# Altium footprint library Con High-Speed PCB.PcbLib: 35 footprints (part 3 of 3)
Each footprint in its own frame and in the unit in brackets; x right, y up, seen from the top. Pads: shape width x height; smd on the part's side, far side on the other; paste and mask are expansions set on the pad; w line width, h text height; cw(c..) or ccw(c..) is an arc to the next point about the centre after c.
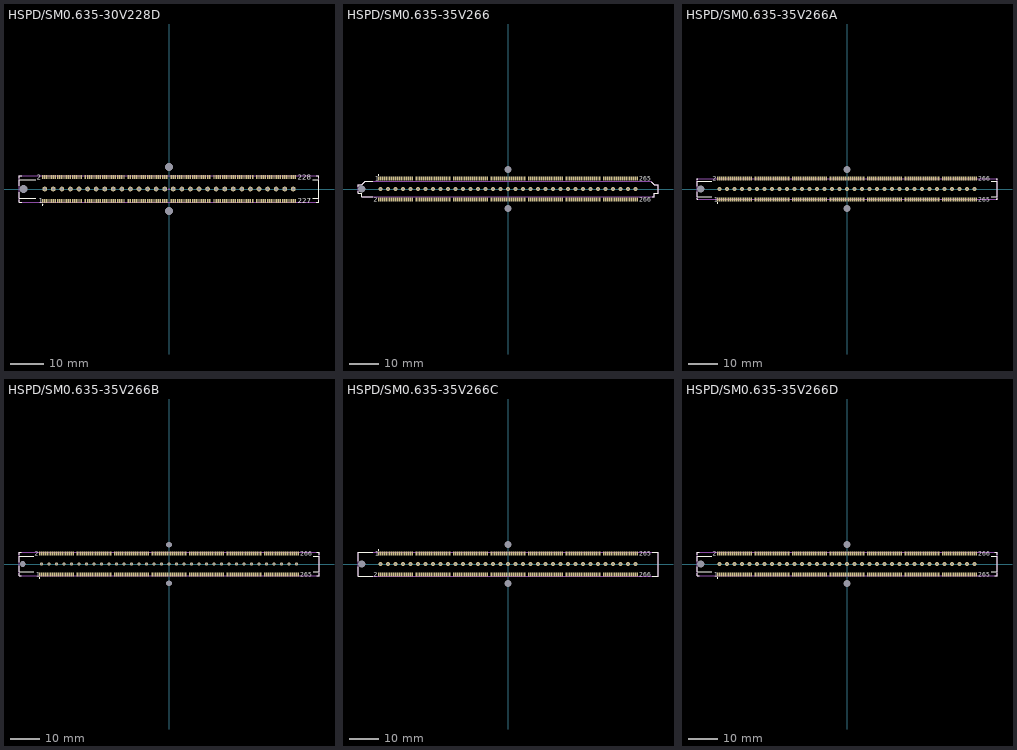
[diagram p2: the footprints below, top view; thin cyan lines are the x and y axes]

## HSPD/SM0.635-30V228D [mil] "Connector; High-Speed, Receptacle; 228 Position; Vertical"
height 600.79
pads (261):
  rect 17x50 smd: 1(-1475,-139) 2(-1475,139) 3(-1450,-139) 4(-1450,139) 5(-1425,-139) 6(-1425,139) 7(-1400,-139) 8(-1400,139) 9(-1375,-139) 10(-1375,139) 11(-1350,-139) 12(-1350,139) 13(-1325,-139) 14(-1325,139) 15(-1300,-139) 16(-1300,139) 17(-1275,-139) 18(-1275,139) 19(-1250,-139) 20(-1250,139) 21(-1225,-139) 22(-1225,139) 23(-1200,-139) 24(-1200,139) 25(-1175,-139) 26(-1175,139) 27(-1150,-139) 28(-1150,139) 29(-1125,-139) 30(-1125,139) 31(-1100,-139) 32(-1100,139) 33(-1075,-139) 34(-1075,139) 35(-1050,-139) 36(-1050,139) 37(-1025,-139) 38(-1025,139) 39(-975,-139) 40(-975,139) 41(-950,-139) 42(-950,139) 43(-925,-139) 44(-925,139) 45(-900,-139) 46(-900,139) 47(-875,-139) 48(-875,139) 49(-850,-139) 50(-850,139) 51(-825,-139) 52(-825,139) 53(-800,-139) 54(-800,139) 55(-775,-139) 56(-775,139) 57(-750,-139) 58(-750,139) 59(-725,-139) 60(-725,139) 61(-700,-139) 62(-700,139) 63(-675,-139) 64(-675,139) 65(-650,-139) 66(-650,139) 67(-625,-139) 68(-625,139) 69(-600,-139) 70(-600,139) 71(-575,-139) 72(-575,139) 73(-550,-139) 74(-550,139) 75(-525,-139) 76(-525,139) 77(-475,-139) 78(-475,139) 79(-450,-139) 80(-450,139) 81(-425,-139) 82(-425,139) 83(-400,-139) 84(-400,139) 85(-375,-139) 86(-375,139) 87(-350,-139) 88(-350,139) 89(-325,-139) 90(-325,139) 91(-300,-139) 92(-300,139) 93(-275,-139) 94(-275,139) 95(-250,-139) 96(-250,139) 97(-225,-139) 98(-225,139) 99(-200,-139) 100(-200,139) 101(-175,-139) 102(-175,139) 103(-150,-139) 104(-150,139) 105(-125,-139) 106(-125,139) 107(-100,-139) 108(-100,139) 109(-75,-139) 110(-75,139) 111(-50,-139) 112(-50,139) 113(-25,-139) 114(-25,139) 115(25,-139) 116(25,139) 117(50,-139) 118(50,139) 119(75,-139) 120(75,139) 121(100,-139) 122(100,139) 123(125,-139) 124(125,139) 125(150,-139) 126(150,139) 127(175,-139) 128(175,139) 129(200,-139) 130(200,139) 131(225,-139) 132(225,139) 133(250,-139) 134(250,139) 135(275,-139) 136(275,139) 137(300,-139) 138(300,139) 139(325,-139) 140(325,139) 141(350,-139) 142(350,139) 143(375,-139) 144(375,139) 145(400,-139) 146(400,139) 147(425,-139) 148(425,139) 149(450,-139) 150(450,139) 151(475,-139) 152(475,139) 153(525,-139) 154(525,139) 155(550,-139) 156(550,139) 157(575,-139) 158(575,139) 159(600,-139) 160(600,139) 161(625,-139) 162(625,139) 163(650,-139) 164(650,139) 165(675,-139) 166(675,139) 167(700,-139) 168(700,139) 169(725,-139) 170(725,139) 171(750,-139) 172(750,139) 173(775,-139) 174(775,139) 175(800,-139) 176(800,139) 177(825,-139) 178(825,139) 179(850,-139) 180(850,139) 181(875,-139) 182(875,139) 183(900,-139) 184(900,139) 185(925,-139) 186(925,139) 187(950,-139) 188(950,139) 189(975,-139) 190(975,139) 191(1025,-139) 192(1025,139) 193(1050,-139) 194(1050,139) 195(1075,-139) 196(1075,139) 197(1100,-139) 198(1100,139) 199(1125,-139) 200(1125,139) 201(1150,-139) 202(1150,139) 203(1175,-139) 204(1175,139) 205(1200,-139) 206(1200,139) 207(1225,-139) 208(1225,139) 209(1250,-139) 210(1250,139) 211(1275,-139) 212(1275,139) 213(1300,-139) 214(1300,139) 215(1325,-139) 216(1325,139) 217(1350,-139) 218(1350,139) 219(1375,-139) 220(1375,139) 221(1400,-139) 222(1400,139) 223(1425,-139) 224(1425,139) 225(1450,-139) 226(1450,139) 227(1475,-139) 228(1475,139)
  round 55.12 hole 32: 229(1450,0) 230(1350,0) 231(1250,0) 232(1150,0) 233(1050,0) 234(950,0) 235(850,0) 236(750,0) 237(650,0) 238(550,0) 239(450,0) 240(350,0) 241(250,0) 242(150,0) 243(50,0) 244(-50,0) 245(-150,0) 246(-250,0) 247(-350,0) 248(-450,0) 249(-550,0) 250(-650,0) 251(-750,0) 252(-850,0) 253(-950,0) 254(-1050,0) 255(-1150,0) 256(-1250,0) 257(-1350,0) 258(-1450,0)
  round 82.19 hole 94 unplated: 259(-1700,0) 260(0,-257.11) 261(0,257.11)
Top Overlay:
  circle w9.84: c-1475,-185.65 r4.92
  lines w7.87: -1750,-125.69 -1750,-157.5 -1718.18,-157.5 ; -1750,-37.91 -1750,-106 -1556.32,-106 ; -1750,37.91 -1750,106 -1556.32,106 ; -1750,125.69 -1750,157.5 -1718.18,157.5 ; 1674.39,-106 1750,-106 1750,106 1674.39,106 ; 1718.18,-157.5 1750,-157.5 1750,-125.69 ; 1718.18,157.5 1750,157.5 1750,125.69
  text "2" at -1541.93,109.47 h59.06
  text "1" at -1522.24,-168.53 h59.06
  text "228" at 1502.56,109.47 h59.06
  text "227" at 1502.56,-168.53 h59.06
Mechanical 1:
  lines w3.94: -10,0 10,0 ; 0,-10 0,10
Mechanical 13:
  lines w3.94: -1750,-157.5 -1750,157.5 1750,157.5 1750,-157.5 -1750,-157.5
3D body: height 600.79, standoff 0, extent -1750,-157.5 1750,157.5

## HSPD/SM0.635-35V266 [mil] "Connector; High-Speed, Plug; 266 Position; Vertical"
height 435.83
pads (304):
  rect 17x50 smd: 1(-1725,139) 2(-1725,-139) 3(-1700,139) 4(-1700,-139) 5(-1675,139) 6(-1675,-139) 7(-1650,139) 8(-1650,-139) 9(-1625,139) 10(-1625,-139) 11(-1600,139) 12(-1600,-139) 13(-1575,139) 14(-1575,-139) 15(-1550,139) 16(-1550,-139) 17(-1525,139) 18(-1525,-139) 19(-1500,139) 20(-1500,-139) 21(-1475,139) 22(-1475,-139) 23(-1450,139) 24(-1450,-139) 25(-1425,139) 26(-1425,-139) 27(-1400,139) 28(-1400,-139) 29(-1375,139) 30(-1375,-139) 31(-1350,139) 32(-1350,-139) 33(-1325,139) 34(-1325,-139) 35(-1300,139) 36(-1300,-139) 37(-1275,139) 38(-1275,-139) 39(-1225,139) 40(-1225,-139) 41(-1200,139) 42(-1200,-139) 43(-1175,139) 44(-1175,-139) 45(-1150,139) 46(-1150,-139) 47(-1125,139) 48(-1125,-139) 49(-1100,139) 50(-1100,-139) 51(-1075,139) 52(-1075,-139) 53(-1050,139) 54(-1050,-139) 55(-1025,139) 56(-1025,-139) 57(-1000,139) 58(-1000,-139) 59(-975,139) 60(-975,-139) 61(-950,139) 62(-950,-139) 63(-925,139) 64(-925,-139) 65(-900,139) 66(-900,-139) 67(-875,139) 68(-875,-139) 69(-850,139) 70(-850,-139) 71(-825,139) 72(-825,-139) 73(-800,139) 74(-800,-139) 75(-775,139) 76(-775,-139) 77(-725,139) 78(-725,-139) 79(-700,139) 80(-700,-139) 81(-675,139) 82(-675,-139) 83(-650,139) 84(-650,-139) 85(-625,139) 86(-625,-139) 87(-600,139) 88(-600,-139) 89(-575,139) 90(-575,-139) 91(-550,139) 92(-550,-139) 93(-525,139) 94(-525,-139) 95(-500,139) 96(-500,-139) 97(-475,139) 98(-475,-139) 99(-450,139) 100(-450,-139) 101(-425,139) 102(-425,-139) 103(-400,139) 104(-400,-139) 105(-375,139) 106(-375,-139) 107(-350,139) 108(-350,-139) 109(-325,139) 110(-325,-139) 111(-300,139) 112(-300,-139) 113(-275,139) 114(-275,-139) 115(-225,139) 116(-225,-139) 117(-200,139) 118(-200,-139) 119(-175,139) 120(-175,-139) 121(-150,139) 122(-150,-139) 123(-125,139) 124(-125,-139) 125(-100,139) 126(-100,-139) 127(-75,139) 128(-75,-139) 129(-50,139) 130(-50,-139) 131(-25,139) 132(-25,-139) 133(0,139) 134(0,-139) 135(25,139) 136(25,-139) 137(50,139) 138(50,-139) 139(75,139) 140(75,-139) 141(100,139) 142(100,-139) 143(125,139) 144(125,-139) 145(150,139) 146(150,-139) 147(175,139) 148(175,-139) 149(200,139) 150(200,-139) 151(225,139) 152(225,-139) 153(275,139) 154(275,-139) 155(300,139) 156(300,-139) 157(325,139) 158(325,-139) 159(350,139) 160(350,-139) 161(375,139) 162(375,-139) 163(400,139) 164(400,-139) 165(425,139) 166(425,-139) 167(450,139) 168(450,-139) 169(475,139) 170(475,-139) 171(500,139) 172(500,-139) 173(525,139) 174(525,-139) 175(550,139) 176(550,-139) 177(575,139) 178(575,-139) 179(600,139) 180(600,-139) 181(625,139) 182(625,-139) 183(650,139) 184(650,-139) 185(675,139) 186(675,-139) 187(700,139) 188(700,-139) 189(725,139) 190(725,-139) 191(775,139) 192(775,-139) 193(800,139) 194(800,-139) 195(825,139) 196(825,-139) 197(850,139) 198(850,-139) 199(875,139) 200(875,-139) 201(900,139) 202(900,-139) 203(925,139) 204(925,-139) 205(950,139) 206(950,-139) 207(975,139) 208(975,-139) 209(1000,139) 210(1000,-139) 211(1025,139) 212(1025,-139) 213(1050,139) 214(1050,-139) 215(1075,139) 216(1075,-139) 217(1100,139) 218(1100,-139) 219(1125,139) 220(1125,-139) 221(1150,139) 222(1150,-139) 223(1175,139) 224(1175,-139) 225(1200,139) 226(1200,-139) 227(1225,139) 228(1225,-139) 229(1275,139) 230(1275,-139) 231(1300,139) 232(1300,-139) 233(1325,139) 234(1325,-139) 235(1350,139) 236(1350,-139) 237(1375,139) 238(1375,-139) 239(1400,139) 240(1400,-139) 241(1425,139) 242(1425,-139) 243(1450,139) 244(1450,-139) 245(1475,139) 246(1475,-139) 247(1500,139) 248(1500,-139) 249(1525,139) 250(1525,-139) 251(1550,139) 252(1550,-139) 253(1575,139) 254(1575,-139) 255(1600,139) 256(1600,-139) 257(1625,139) 258(1625,-139) 259(1650,139) 260(1650,-139) 261(1675,139) 262(1675,-139) 263(1700,139) 264(1700,-139) 265(1725,139) 266(1725,-139)
  round 55.12 hole 32: 267(1700,0) 268(1600,0) 269(1500,0) 270(1400,0) 271(1300,0) 272(1200,0) 273(1100,0) 274(1000,0) 275(900,0) 276(800,0) 277(700,0) 278(600,0) 279(500,0) 280(400,0) 281(300,0) 282(200,0) 283(100,0) 284(0,0) 285(-100,0) 286(-200,0) 287(-300,0) 288(-400,0) 289(-500,0) 290(-600,0) 291(-700,0) 292(-800,0) 293(-900,0) 294(-1000,0) 295(-1100,0) 296(-1200,0) 297(-1300,0) 298(-1400,0) 299(-1500,0) 300(-1600,0) 301(-1700,0)
  round 82.19 hole 94 unplated: 302(-1950,0) 303(0,-257.11) 304(0,257.11)
Top Overlay:
  circle w9.84: c-1725,185.65 r4.92
  lines w7.87: -2000,-31.32 -2000,-59 -1949,-59 -1949,-104 -1806.32,-104 ; -2000,31.32 -2000,59 -1949,59 -1904,104 -1806.32,104 ; 1910.41,97.59 1949,59 2000,59 2000,-59 1949,-59 1949,-104 1924.39,-104
  text "1" at -1772.24,109.47 h59.06
  text "2" at -1791.93,-168.53 h59.06
  text "265" at 1752.56,109.47 h59.06
  text "266" at 1752.56,-168.53 h59.06
Mechanical 13:
  lines w3.94: -2000,-59 -2000,59 -1949,59 -1904,104 1904,104 1949,59 2000,59 2000,-59 1949,-59 1949,-104 -1949,-104 -1949,-59 -2000,-59
3D body: height 435.83, standoff 0, extent -2000.02,-104.02 2000.02,104.02

## HSPD/SM0.635-35V266A [mil] "Connector; High-Speed, Receptacle; 266 Position; Vertical"
height 250
pads (304):
  rect 17x50 smd: 1(-1725,-139) 2(-1725,139) 3(-1700,-139) 4(-1700,139) 5(-1675,-139) 6(-1675,139) 7(-1650,-139) 8(-1650,139) 9(-1625,-139) 10(-1625,139) 11(-1600,-139) 12(-1600,139) 13(-1575,-139) 14(-1575,139) 15(-1550,-139) 16(-1550,139) 17(-1525,-139) 18(-1525,139) 19(-1500,-139) 20(-1500,139) 21(-1475,-139) 22(-1475,139) 23(-1450,-139) 24(-1450,139) 25(-1425,-139) 26(-1425,139) 27(-1400,-139) 28(-1400,139) 29(-1375,-139) 30(-1375,139) 31(-1350,-139) 32(-1350,139) 33(-1325,-139) 34(-1325,139) 35(-1300,-139) 36(-1300,139) 37(-1275,-139) 38(-1275,139) 39(-1225,-139) 40(-1225,139) 41(-1200,-139) 42(-1200,139) 43(-1175,-139) 44(-1175,139) 45(-1150,-139) 46(-1150,139) 47(-1125,-139) 48(-1125,139) 49(-1100,-139) 50(-1100,139) 51(-1075,-139) 52(-1075,139) 53(-1050,-139) 54(-1050,139) 55(-1025,-139) 56(-1025,139) 57(-1000,-139) 58(-1000,139) 59(-975,-139) 60(-975,139) 61(-950,-139) 62(-950,139) 63(-925,-139) 64(-925,139) 65(-900,-139) 66(-900,139) 67(-875,-139) 68(-875,139) 69(-850,-139) 70(-850,139) 71(-825,-139) 72(-825,139) 73(-800,-139) 74(-800,139) 75(-775,-139) 76(-775,139) 77(-725,-139) 78(-725,139) 79(-700,-139) 80(-700,139) 81(-675,-139) 82(-675,139) 83(-650,-139) 84(-650,139) 85(-625,-139) 86(-625,139) 87(-600,-139) 88(-600,139) 89(-575,-139) 90(-575,139) 91(-550,-139) 92(-550,139) 93(-525,-139) 94(-525,139) 95(-500,-139) 96(-500,139) 97(-475,-139) 98(-475,139) 99(-450,-139) 100(-450,139) 101(-425,-139) 102(-425,139) 103(-400,-139) 104(-400,139) 105(-375,-139) 106(-375,139) 107(-350,-139) 108(-350,139) 109(-325,-139) 110(-325,139) 111(-300,-139) 112(-300,139) 113(-275,-139) 114(-275,139) 115(-225,-139) 116(-225,139) 117(-200,-139) 118(-200,139) 119(-175,-139) 120(-175,139) 121(-150,-139) 122(-150,139) 123(-125,-139) 124(-125,139) 125(-100,-139) 126(-100,139) 127(-75,-139) 128(-75,139) 129(-50,-139) 130(-50,139) 131(-25,-139) 132(-25,139) 133(0,-139) 134(0,139) 135(25,-139) 136(25,139) 137(50,-139) 138(50,139) 139(75,-139) 140(75,139) 141(100,-139) 142(100,139) 143(125,-139) 144(125,139) 145(150,-139) 146(150,139) 147(175,-139) 148(175,139) 149(200,-139) 150(200,139) 151(225,-139) 152(225,139) 153(275,-139) 154(275,139) 155(300,-139) 156(300,139) 157(325,-139) 158(325,139) 159(350,-139) 160(350,139) 161(375,-139) 162(375,139) 163(400,-139) 164(400,139) 165(425,-139) 166(425,139) 167(450,-139) 168(450,139) 169(475,-139) 170(475,139) 171(500,-139) 172(500,139) 173(525,-139) 174(525,139) 175(550,-139) 176(550,139) 177(575,-139) 178(575,139) 179(600,-139) 180(600,139) 181(625,-139) 182(625,139) 183(650,-139) 184(650,139) 185(675,-139) 186(675,139) 187(700,-139) 188(700,139) 189(725,-139) 190(725,139) 191(775,-139) 192(775,139) 193(800,-139) 194(800,139) 195(825,-139) 196(825,139) 197(850,-139) 198(850,139) 199(875,-139) 200(875,139) 201(900,-139) 202(900,139) 203(925,-139) 204(925,139) 205(950,-139) 206(950,139) 207(975,-139) 208(975,139) 209(1000,-139) 210(1000,139) 211(1025,-139) 212(1025,139) 213(1050,-139) 214(1050,139) 215(1075,-139) 216(1075,139) 217(1100,-139) 218(1100,139) 219(1125,-139) 220(1125,139) 221(1150,-139) 222(1150,139) 223(1175,-139) 224(1175,139) 225(1200,-139) 226(1200,139) 227(1225,-139) 228(1225,139) 229(1275,-139) 230(1275,139) 231(1300,-139) 232(1300,139) 233(1325,-139) 234(1325,139) 235(1350,-139) 236(1350,139) 237(1375,-139) 238(1375,139) 239(1400,-139) 240(1400,139) 241(1425,-139) 242(1425,139) 243(1450,-139) 244(1450,139) 245(1475,-139) 246(1475,139) 247(1500,-139) 248(1500,139) 249(1525,-139) 250(1525,139) 251(1550,-139) 252(1550,139) 253(1575,-139) 254(1575,139) 255(1600,-139) 256(1600,139) 257(1625,-139) 258(1625,139) 259(1650,-139) 260(1650,139) 261(1675,-139) 262(1675,139) 263(1700,-139) 264(1700,139) 265(1725,-139) 266(1725,139)
  round 55.12 hole 32: 267(1700,0) 268(1600,0) 269(1500,0) 270(1400,0) 271(1300,0) 272(1200,0) 273(1100,0) 274(1000,0) 275(900,0) 276(800,0) 277(700,0) 278(600,0) 279(500,0) 280(400,0) 281(300,0) 282(200,0) 283(100,0) 284(0,0) 285(-100,0) 286(-200,0) 287(-300,0) 288(-400,0) 289(-500,0) 290(-600,0) 291(-700,0) 292(-800,0) 293(-900,0) 294(-1000,0) 295(-1100,0) 296(-1200,0) 297(-1300,0) 298(-1400,0) 299(-1500,0) 300(-1600,0) 301(-1700,0)
  round 82.19 hole 94 unplated: 302(-1950,0) 303(0,-257.11) 304(0,257.11)
Top Overlay:
  circle w9.84: c-1725,-185.65 r4.92
  lines w7.87: -2000,-125.69 -2000,-136 -1989.68,-136 ; -2000,-37.91 -2000,-106 -1806.32,-106 ; -2000,37.91 -2000,106 -1806.32,106 ; -2000,125.69 -2000,136 -1989.68,136 ; 1924.39,-106 2000,-106 2000,106 1924.39,106 ; 1989.68,-136 2000,-136 2000,-125.69 ; 1989.68,136 2000,136 2000,125.69
  text "265" at 1752.56,-168.53 h59.06
  text "266" at 1752.56,109.47 h59.06
  text "2" at -1791.93,109.47 h59.06
  text "1" at -1772.24,-168.53 h59.06
Mechanical 13:
  lines w3.94: -2000,-136 -2000,136 2000,136 2000,-136 -2000,-136
3D body: height 250, standoff 0, extent -2000,-136 2000,136

## HSPD/SM0.635-35V266B [mil] "Connector; High-Speed, Receptacle; 266 Position; Vertical"
height 600.79
pads (304):
  rect 17x50 smd: 1(-1725,-139) 2(-1725,139) 3(-1700,-139) 4(-1700,139) 5(-1675,-139) 6(-1675,139) 7(-1650,-139) 8(-1650,139) 9(-1625,-139) 10(-1625,139) 11(-1600,-139) 12(-1600,139) 13(-1575,-139) 14(-1575,139) 15(-1550,-139) 16(-1550,139) 17(-1525,-139) 18(-1525,139) 19(-1500,-139) 20(-1500,139) 21(-1475,-139) 22(-1475,139) 23(-1450,-139) 24(-1450,139) 25(-1425,-139) 26(-1425,139) 27(-1400,-139) 28(-1400,139) 29(-1375,-139) 30(-1375,139) 31(-1350,-139) 32(-1350,139) 33(-1325,-139) 34(-1325,139) 35(-1300,-139) 36(-1300,139) 37(-1275,-139) 38(-1275,139) 39(-1225,-139) 40(-1225,139) 41(-1200,-139) 42(-1200,139) 43(-1175,-139) 44(-1175,139) 45(-1150,-139) 46(-1150,139) 47(-1125,-139) 48(-1125,139) 49(-1100,-139) 50(-1100,139) 51(-1075,-139) 52(-1075,139) 53(-1050,-139) 54(-1050,139) 55(-1025,-139) 56(-1025,139) 57(-1000,-139) 58(-1000,139) 59(-975,-139) 60(-975,139) 61(-950,-139) 62(-950,139) 63(-925,-139) 64(-925,139) 65(-900,-139) 66(-900,139) 67(-875,-139) 68(-875,139) 69(-850,-139) 70(-850,139) 71(-825,-139) 72(-825,139) 73(-800,-139) 74(-800,139) 75(-775,-139) 76(-775,139) 77(-725,-139) 78(-725,139) 79(-700,-139) 80(-700,139) 81(-675,-139) 82(-675,139) 83(-650,-139) 84(-650,139) 85(-625,-139) 86(-625,139) 87(-600,-139) 88(-600,139) 89(-575,-139) 90(-575,139) 91(-550,-139) 92(-550,139) 93(-525,-139) 94(-525,139) 95(-500,-139) 96(-500,139) 97(-475,-139) 98(-475,139) 99(-450,-139) 100(-450,139) 101(-425,-139) 102(-425,139) 103(-400,-139) 104(-400,139) 105(-375,-139) 106(-375,139) 107(-350,-139) 108(-350,139) 109(-325,-139) 110(-325,139) 111(-300,-139) 112(-300,139) 113(-275,-139) 114(-275,139) 115(-225,-139) 116(-225,139) 117(-200,-139) 118(-200,139) 119(-175,-139) 120(-175,139) 121(-150,-139) 122(-150,139) 123(-125,-139) 124(-125,139) 125(-100,-139) 126(-100,139) 127(-75,-139) 128(-75,139) 129(-50,-139) 130(-50,139) 131(-25,-139) 132(-25,139) 133(0,-139) 134(0,139) 135(25,-139) 136(25,139) 137(50,-139) 138(50,139) 139(75,-139) 140(75,139) 141(100,-139) 142(100,139) 143(125,-139) 144(125,139) 145(150,-139) 146(150,139) 147(175,-139) 148(175,139) 149(200,-139) 150(200,139) 151(225,-139) 152(225,139) 153(275,-139) 154(275,139) 155(300,-139) 156(300,139) 157(325,-139) 158(325,139) 159(350,-139) 160(350,139) 161(375,-139) 162(375,139) 163(400,-139) 164(400,139) 165(425,-139) 166(425,139) 167(450,-139) 168(450,139) 169(475,-139) 170(475,139) 171(500,-139) 172(500,139) 173(525,-139) 174(525,139) 175(550,-139) 176(550,139) 177(575,-139) 178(575,139) 179(600,-139) 180(600,139) 181(625,-139) 182(625,139) 183(650,-139) 184(650,139) 185(675,-139) 186(675,139) 187(700,-139) 188(700,139) 189(725,-139) 190(725,139) 191(775,-139) 192(775,139) 193(800,-139) 194(800,139) 195(825,-139) 196(825,139) 197(850,-139) 198(850,139) 199(875,-139) 200(875,139) 201(900,-139) 202(900,139) 203(925,-139) 204(925,139) 205(950,-139) 206(950,139) 207(975,-139) 208(975,139) 209(1000,-139) 210(1000,139) 211(1025,-139) 212(1025,139) 213(1050,-139) 214(1050,139) 215(1075,-139) 216(1075,139) 217(1100,-139) 218(1100,139) 219(1125,-139) 220(1125,139) 221(1150,-139) 222(1150,139) 223(1175,-139) 224(1175,139) 225(1200,-139) 226(1200,139) 227(1225,-139) 228(1225,139) 229(1275,-139) 230(1275,139) 231(1300,-139) 232(1300,139) 233(1325,-139) 234(1325,139) 235(1350,-139) 236(1350,139) 237(1375,-139) 238(1375,139) 239(1400,-139) 240(1400,139) 241(1425,-139) 242(1425,139) 243(1450,-139) 244(1450,139) 245(1475,-139) 246(1475,139) 247(1500,-139) 248(1500,139) 249(1525,-139) 250(1525,139) 251(1550,-139) 252(1550,139) 253(1575,-139) 254(1575,139) 255(1600,-139) 256(1600,139) 257(1625,-139) 258(1625,139) 259(1650,-139) 260(1650,139) 261(1675,-139) 262(1675,139) 263(1700,-139) 264(1700,139) 265(1725,-139) 266(1725,139)
  round 43.31 hole 25: 267(1700,0) 268(1600,0) 269(1500,0) 270(1400,0) 271(1300,0) 272(1200,0) 273(1100,0) 274(1000,0) 275(900,0) 276(800,0) 277(700,0) 278(600,0) 279(500,0) 280(400,0) 281(300,0) 282(200,0) 283(100,0) 284(0,0) 285(-100,0) 286(-200,0) 287(-300,0) 288(-400,0) 289(-500,0) 290(-600,0) 291(-700,0) 292(-800,0) 293(-900,0) 294(-1000,0) 295(-1100,0) 296(-1200,0) 297(-1300,0) 298(-1400,0) 299(-1500,0) 300(-1600,0) 301(-1700,0)
  round 67.19 hole 79 unplated: 302(-1950,0) 303(0,-257.11) 304(0,257.11)
Top Overlay:
  circle w9.84: c-1725,-185.65 r4.92
  lines w7.87: -2000,-125.69 -2000,-157.5 -1968.18,-157.5 ; -2000,-23.5 -2000,-106 -1806.32,-106 ; -2000,23.5 -2000,106 -1806.32,106 ; -2000,125.69 -2000,157.5 -1968.18,157.5 ; 1924.39,-106 2000,-106 2000,106 1924.39,106 ; 1968.18,-157.5 2000,-157.5 2000,-125.69 ; 1968.18,157.5 2000,157.5 2000,125.69
  text "1" at -1772.24,-168.53 h59.06
  text "2" at -1791.93,109.47 h59.06
  text "266" at 1752.56,109.47 h59.06
  text "265" at 1752.56,-168.53 h59.06
Mechanical 13:
  lines w3.94: -2000,-157.5 2000,-157.5 2000,157.5 -2000,157.5 -2000,-157.5
3D body: height 600.79, standoff 0, extent -2000,-157.5 2000,157.5

## HSPD/SM0.635-35V266C [mil] "Connector; High-Speed, Plug; 266 Position; Vertical"
height 903.15
pads (304):
  rect 17x50 smd: 1(-1725,139) 2(-1725,-139) 3(-1700,139) 4(-1700,-139) 5(-1675,139) 6(-1675,-139) 7(-1650,139) 8(-1650,-139) 9(-1625,139) 10(-1625,-139) 11(-1600,139) 12(-1600,-139) 13(-1575,139) 14(-1575,-139) 15(-1550,139) 16(-1550,-139) 17(-1525,139) 18(-1525,-139) 19(-1500,139) 20(-1500,-139) 21(-1475,139) 22(-1475,-139) 23(-1450,139) 24(-1450,-139) 25(-1425,139) 26(-1425,-139) 27(-1400,139) 28(-1400,-139) 29(-1375,139) 30(-1375,-139) 31(-1350,139) 32(-1350,-139) 33(-1325,139) 34(-1325,-139) 35(-1300,139) 36(-1300,-139) 37(-1275,139) 38(-1275,-139) 39(-1225,139) 40(-1225,-139) 41(-1200,139) 42(-1200,-139) 43(-1175,139) 44(-1175,-139) 45(-1150,139) 46(-1150,-139) 47(-1125,139) 48(-1125,-139) 49(-1100,139) 50(-1100,-139) 51(-1075,139) 52(-1075,-139) 53(-1050,139) 54(-1050,-139) 55(-1025,139) 56(-1025,-139) 57(-1000,139) 58(-1000,-139) 59(-975,139) 60(-975,-139) 61(-950,139) 62(-950,-139) 63(-925,139) 64(-925,-139) 65(-900,139) 66(-900,-139) 67(-875,139) 68(-875,-139) 69(-850,139) 70(-850,-139) 71(-825,139) 72(-825,-139) 73(-800,139) 74(-800,-139) 75(-775,139) 76(-775,-139) 77(-725,139) 78(-725,-139) 79(-700,139) 80(-700,-139) 81(-675,139) 82(-675,-139) 83(-650,139) 84(-650,-139) 85(-625,139) 86(-625,-139) 87(-600,139) 88(-600,-139) 89(-575,139) 90(-575,-139) 91(-550,139) 92(-550,-139) 93(-525,139) 94(-525,-139) 95(-500,139) 96(-500,-139) 97(-475,139) 98(-475,-139) 99(-450,139) 100(-450,-139) 101(-425,139) 102(-425,-139) 103(-400,139) 104(-400,-139) 105(-375,139) 106(-375,-139) 107(-350,139) 108(-350,-139) 109(-325,139) 110(-325,-139) 111(-300,139) 112(-300,-139) 113(-275,139) 114(-275,-139) 115(-225,139) 116(-225,-139) 117(-200,139) 118(-200,-139) 119(-175,139) 120(-175,-139) 121(-150,139) 122(-150,-139) 123(-125,139) 124(-125,-139) 125(-100,139) 126(-100,-139) 127(-75,139) 128(-75,-139) 129(-50,139) 130(-50,-139) 131(-25,139) 132(-25,-139) 133(0,139) 134(0,-139) 135(25,139) 136(25,-139) 137(50,139) 138(50,-139) 139(75,139) 140(75,-139) 141(100,139) 142(100,-139) 143(125,139) 144(125,-139) 145(150,139) 146(150,-139) 147(175,139) 148(175,-139) 149(200,139) 150(200,-139) 151(225,139) 152(225,-139) 153(275,139) 154(275,-139) 155(300,139) 156(300,-139) 157(325,139) 158(325,-139) 159(350,139) 160(350,-139) 161(375,139) 162(375,-139) 163(400,139) 164(400,-139) 165(425,139) 166(425,-139) 167(450,139) 168(450,-139) 169(475,139) 170(475,-139) 171(500,139) 172(500,-139) 173(525,139) 174(525,-139) 175(550,139) 176(550,-139) 177(575,139) 178(575,-139) 179(600,139) 180(600,-139) 181(625,139) 182(625,-139) 183(650,139) 184(650,-139) 185(675,139) 186(675,-139) 187(700,139) 188(700,-139) 189(725,139) 190(725,-139) 191(775,139) 192(775,-139) 193(800,139) 194(800,-139) 195(825,139) 196(825,-139) 197(850,139) 198(850,-139) 199(875,139) 200(875,-139) 201(900,139) 202(900,-139) 203(925,139) 204(925,-139) 205(950,139) 206(950,-139) 207(975,139) 208(975,-139) 209(1000,139) 210(1000,-139) 211(1025,139) 212(1025,-139) 213(1050,139) 214(1050,-139) 215(1075,139) 216(1075,-139) 217(1100,139) 218(1100,-139) 219(1125,139) 220(1125,-139) 221(1150,139) 222(1150,-139) 223(1175,139) 224(1175,-139) 225(1200,139) 226(1200,-139) 227(1225,139) 228(1225,-139) 229(1275,139) 230(1275,-139) 231(1300,139) 232(1300,-139) 233(1325,139) 234(1325,-139) 235(1350,139) 236(1350,-139) 237(1375,139) 238(1375,-139) 239(1400,139) 240(1400,-139) 241(1425,139) 242(1425,-139) 243(1450,139) 244(1450,-139) 245(1475,139) 246(1475,-139) 247(1500,139) 248(1500,-139) 249(1525,139) 250(1525,-139) 251(1550,139) 252(1550,-139) 253(1575,139) 254(1575,-139) 255(1600,139) 256(1600,-139) 257(1625,139) 258(1625,-139) 259(1650,139) 260(1650,-139) 261(1675,139) 262(1675,-139) 263(1700,139) 264(1700,-139) 265(1725,139) 266(1725,-139)
  round 55.12 hole 32: 267(1700,0) 268(1600,0) 269(1500,0) 270(1400,0) 271(1300,0) 272(1200,0) 273(1100,0) 274(1000,0) 275(900,0) 276(800,0) 277(700,0) 278(600,0) 279(500,0) 280(400,0) 281(300,0) 282(200,0) 283(100,0) 284(0,0) 285(-100,0) 286(-200,0) 287(-300,0) 288(-400,0) 289(-500,0) 290(-600,0) 291(-700,0) 292(-800,0) 293(-900,0) 294(-1000,0) 295(-1100,0) 296(-1200,0) 297(-1300,0) 298(-1400,0) 299(-1500,0) 300(-1600,0) 301(-1700,0)
  round 82.19 hole 94 unplated: 302(-1950,0) 303(0,-257.11) 304(0,257.11)
Top Overlay:
  circle w9.84: c-1725,185.65 r4.92
  lines w7.87: -2000,-37.91 -2000,-160 -1806.32,-160 ; -2000,37.91 -2000,160 -1806.32,160 ; 1924.39,-160 2000,-160 2000,160 1924.39,160
  text "1" at -1772.24,109.47 h59.06
  text "2" at -1791.93,-168.53 h59.06
  text "265" at 1752.56,109.47 h59.06
  text "266" at 1752.56,-168.53 h59.06
Mechanical 13:
  lines w3.94: -2000,-160 2000,-160 2000,160 -2000,160 -2000,-160
3D body: height 903.15, standoff 0, extent -2000,-160 2000,160

## HSPD/SM0.635-35V266D [mil] "Connector; High-Speed, Receptacle; 266 Position; Vertical"
height 600.79
pads (304):
  rect 17x50 smd: 1(-1725,-139) 2(-1725,139) 3(-1700,-139) 4(-1700,139) 5(-1675,-139) 6(-1675,139) 7(-1650,-139) 8(-1650,139) 9(-1625,-139) 10(-1625,139) 11(-1600,-139) 12(-1600,139) 13(-1575,-139) 14(-1575,139) 15(-1550,-139) 16(-1550,139) 17(-1525,-139) 18(-1525,139) 19(-1500,-139) 20(-1500,139) 21(-1475,-139) 22(-1475,139) 23(-1450,-139) 24(-1450,139) 25(-1425,-139) 26(-1425,139) 27(-1400,-139) 28(-1400,139) 29(-1375,-139) 30(-1375,139) 31(-1350,-139) 32(-1350,139) 33(-1325,-139) 34(-1325,139) 35(-1300,-139) 36(-1300,139) 37(-1275,-139) 38(-1275,139) 39(-1225,-139) 40(-1225,139) 41(-1200,-139) 42(-1200,139) 43(-1175,-139) 44(-1175,139) 45(-1150,-139) 46(-1150,139) 47(-1125,-139) 48(-1125,139) 49(-1100,-139) 50(-1100,139) 51(-1075,-139) 52(-1075,139) 53(-1050,-139) 54(-1050,139) 55(-1025,-139) 56(-1025,139) 57(-1000,-139) 58(-1000,139) 59(-975,-139) 60(-975,139) 61(-950,-139) 62(-950,139) 63(-925,-139) 64(-925,139) 65(-900,-139) 66(-900,139) 67(-875,-139) 68(-875,139) 69(-850,-139) 70(-850,139) 71(-825,-139) 72(-825,139) 73(-800,-139) 74(-800,139) 75(-775,-139) 76(-775,139) 77(-725,-139) 78(-725,139) 79(-700,-139) 80(-700,139) 81(-675,-139) 82(-675,139) 83(-650,-139) 84(-650,139) 85(-625,-139) 86(-625,139) 87(-600,-139) 88(-600,139) 89(-575,-139) 90(-575,139) 91(-550,-139) 92(-550,139) 93(-525,-139) 94(-525,139) 95(-500,-139) 96(-500,139) 97(-475,-139) 98(-475,139) 99(-450,-139) 100(-450,139) 101(-425,-139) 102(-425,139) 103(-400,-139) 104(-400,139) 105(-375,-139) 106(-375,139) 107(-350,-139) 108(-350,139) 109(-325,-139) 110(-325,139) 111(-300,-139) 112(-300,139) 113(-275,-139) 114(-275,139) 115(-225,-139) 116(-225,139) 117(-200,-139) 118(-200,139) 119(-175,-139) 120(-175,139) 121(-150,-139) 122(-150,139) 123(-125,-139) 124(-125,139) 125(-100,-139) 126(-100,139) 127(-75,-139) 128(-75,139) 129(-50,-139) 130(-50,139) 131(-25,-139) 132(-25,139) 133(0,-139) 134(0,139) 135(25,-139) 136(25,139) 137(50,-139) 138(50,139) 139(75,-139) 140(75,139) 141(100,-139) 142(100,139) 143(125,-139) 144(125,139) 145(150,-139) 146(150,139) 147(175,-139) 148(175,139) 149(200,-139) 150(200,139) 151(225,-139) 152(225,139) 153(275,-139) 154(275,139) 155(300,-139) 156(300,139) 157(325,-139) 158(325,139) 159(350,-139) 160(350,139) 161(375,-139) 162(375,139) 163(400,-139) 164(400,139) 165(425,-139) 166(425,139) 167(450,-139) 168(450,139) 169(475,-139) 170(475,139) 171(500,-139) 172(500,139) 173(525,-139) 174(525,139) 175(550,-139) 176(550,139) 177(575,-139) 178(575,139) 179(600,-139) 180(600,139) 181(625,-139) 182(625,139) 183(650,-139) 184(650,139) 185(675,-139) 186(675,139) 187(700,-139) 188(700,139) 189(725,-139) 190(725,139) 191(775,-139) 192(775,139) 193(800,-139) 194(800,139) 195(825,-139) 196(825,139) 197(850,-139) 198(850,139) 199(875,-139) 200(875,139) 201(900,-139) 202(900,139) 203(925,-139) 204(925,139) 205(950,-139) 206(950,139) 207(975,-139) 208(975,139) 209(1000,-139) 210(1000,139) 211(1025,-139) 212(1025,139) 213(1050,-139) 214(1050,139) 215(1075,-139) 216(1075,139) 217(1100,-139) 218(1100,139) 219(1125,-139) 220(1125,139) 221(1150,-139) 222(1150,139) 223(1175,-139) 224(1175,139) 225(1200,-139) 226(1200,139) 227(1225,-139) 228(1225,139) 229(1275,-139) 230(1275,139) 231(1300,-139) 232(1300,139) 233(1325,-139) 234(1325,139) 235(1350,-139) 236(1350,139) 237(1375,-139) 238(1375,139) 239(1400,-139) 240(1400,139) 241(1425,-139) 242(1425,139) 243(1450,-139) 244(1450,139) 245(1475,-139) 246(1475,139) 247(1500,-139) 248(1500,139) 249(1525,-139) 250(1525,139) 251(1550,-139) 252(1550,139) 253(1575,-139) 254(1575,139) 255(1600,-139) 256(1600,139) 257(1625,-139) 258(1625,139) 259(1650,-139) 260(1650,139) 261(1675,-139) 262(1675,139) 263(1700,-139) 264(1700,139) 265(1725,-139) 266(1725,139)
  round 55.12 hole 32: 267(1700,0) 268(1600,0) 269(1500,0) 270(1400,0) 271(1300,0) 272(1200,0) 273(1100,0) 274(1000,0) 275(900,0) 276(800,0) 277(700,0) 278(600,0) 279(500,0) 280(400,0) 281(300,0) 282(200,0) 283(100,0) 284(0,0) 285(-100,0) 286(-200,0) 287(-300,0) 288(-400,0) 289(-500,0) 290(-600,0) 291(-700,0) 292(-800,0) 293(-900,0) 294(-1000,0) 295(-1100,0) 296(-1200,0) 297(-1300,0) 298(-1400,0) 299(-1500,0) 300(-1600,0) 301(-1700,0)
  round 82.19 hole 94 unplated: 302(-1950,0) 303(0,-257.11) 304(0,257.11)
Top Overlay:
  circle w9.84: c-1725,-185.65 r4.92
  lines w7.87: -2000,-125.69 -2000,-157.5 -1968.18,-157.5 ; -2000,-37.91 -2000,-106 -1806.32,-106 ; -2000,37.91 -2000,106 -1806.32,106 ; -2000,125.69 -2000,157.5 -1968.18,157.5 ; 1924.39,-106 2000,-106 2000,106 1924.39,106 ; 1968.18,-157.5 2000,-157.5 2000,-125.69 ; 1968.18,157.5 2000,157.5 2000,125.69
  text "1" at -1772.24,-168.53 h59.06
  text "2" at -1791.93,109.47 h59.06
  text "266" at 1752.56,109.47 h59.06
  text "265" at 1752.56,-168.53 h59.06
Mechanical 13:
  lines w3.94: -2000,-157.5 -2000,157.5 2000,157.5 2000,-157.5 -2000,-157.5
3D body: height 600.79, standoff 0, extent -2000,-157.5 2000,157.5